# EAGLE library part MCP1407-E/SN (library MTS-OTR_Custom)
IC, MOSFET DRIVER, LOW SIDE
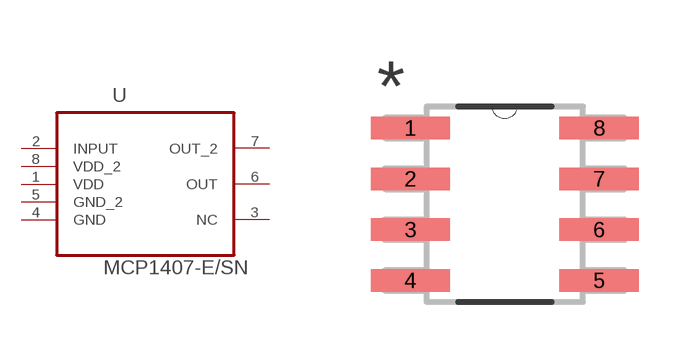
[diagram p34: symbol with the pads of SOIC127P600X175-8N; footprint SOIC127P600X175-8N]

Designator prefix U

## MCP1407-E/SN (AVAILABILITY: Good; DESCRIPTION: MCP1407 Series 6 A 18 Vmax Low Side Non-Inverting MOSFET Driver - SOIC-8; MF: Microchip; MP: MCP1407-E/SN; PACKAGE: SOIC-8 Microchip; PRICE: 0.95 USD)  [SOIC127P600X175-8N]
1  VDD  pwr
2  INPUT  in
3  NC  nc
4  GND  pas
5  GND_2  pas
6  OUT  out
7  OUT_2  out
8  VDD_2  pwr

## Footprint SOIC127P600X175-8N (pad centres in mm)
smd 1.981 x 0.559: 1 -2.362,1.905; 2 -2.362,0.635; 3 -2.362,-0.635; 4 -2.362,-1.905; 5 2.362,-1.905; 6 2.362,-0.635; 7 2.362,0.635; 8 2.362,1.905